# Altium integrated library Diodes - TVS.IntLib: 5379 symbols (part 119 of 122)
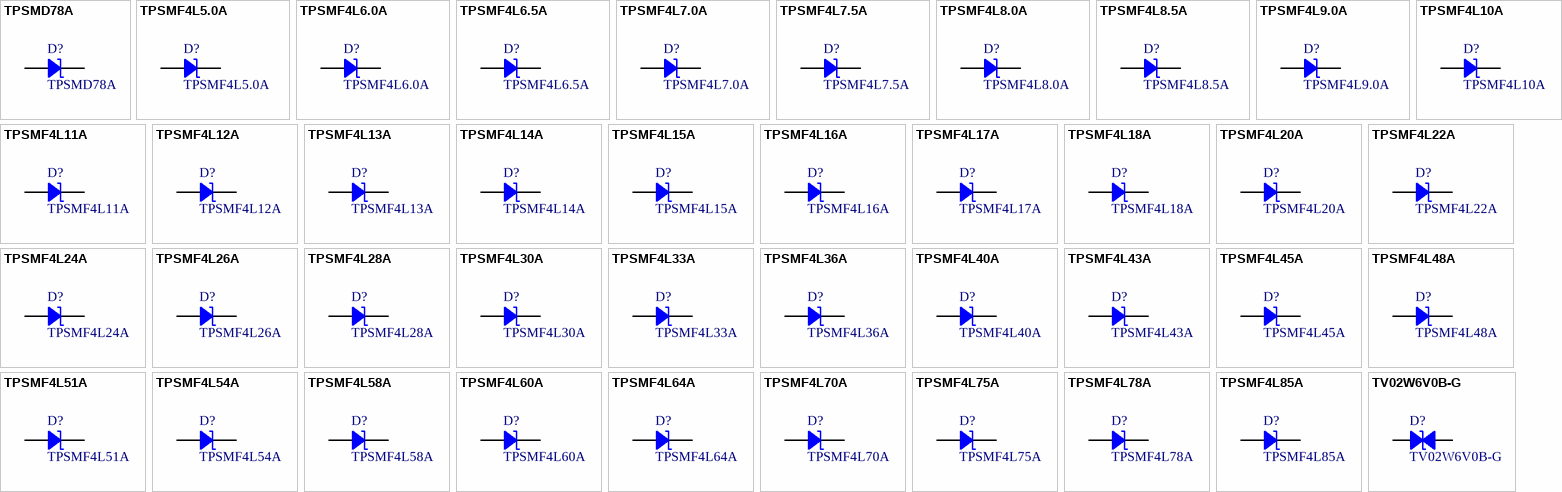
[diagram p252: symbols TPSMD78A to TV02W6V0B-G]

## TPSMF4L5.0A
designator D?
TVS DIODE 5V 9.2V SOD123FL; Manufacturer: Littelfuse Inc.; Current - Peak Pulse (10/1000µs): 40.1A; Power Line Protection: No; Power - Peak Pulse: 400W (Typ); Type: Zener; Unidirectional Channels: 1; Voltage - Breakdown (Min): 6.4V; Part Number: TPSMF4L5.0A; Applications: Automotive; ComponentLink1Description: Datasheet; ComponentLink1URL: https://www.littelfuse.com/~/media/electronics/datasheets/tvs_diodes/littelfuse_tvs_diode_tpsmf4l_datasheet.pdf.pdf; ComponentLink2Description: DigiKey Link; ComponentLink2URL: http://digikey.com/product-detail/en/littelfuse-inc/TPSMF4L5.0A/F7522CT-ND/6131274; LastUpdated: 9/2/2020 1:28:37 AM; Lifecycle Status: Active; Minimum Order: 1; Mounting Type: Surface Mount; Operating Temperature: -55°C ~ 150°C (TJ); Package / Case: SOD-123F; Packaging: TapeAndReel; PartId: 10208; Part Status: Active; Price: 0.14; Series: Automotive, AEC-Q101, TPSMF4L; Supplier 1: DigiKey; Supplier Part Number 1: F7522CT-ND; Supplier Device Package: SOD-123FL; Voltage - Clamping (Max) @ Ipp: 9.2V; Voltage - Reverse Standoff (Typ): 5V
footprint SOD123F
pins: 1, 2

## TPSMF4L6.0A
designator D?
TVS DIODE 6V 10.3V SOD123FL; Manufacturer: Littelfuse Inc.; Current - Peak Pulse (10/1000µs): 35.9A; Power Line Protection: No; Power - Peak Pulse: 400W (Typ); Type: Zener; Unidirectional Channels: 1; Voltage - Breakdown (Min): 6.67V; Part Number: TPSMF4L6.0A; Applications: Automotive; ComponentLink1Description: Datasheet; ComponentLink1URL: https://www.littelfuse.com/~/media/electronics/datasheets/tvs_diodes/littelfuse_tvs_diode_tpsmf4l_datasheet.pdf.pdf; ComponentLink2Description: DigiKey Link; ComponentLink2URL: http://digikey.com/product-detail/en/littelfuse-inc/TPSMF4L6.0A/F7527CT-ND/6131279; LastUpdated: 9/2/2020 1:28:36 AM; Lifecycle Status: Active; Minimum Order: 1; Mounting Type: Surface Mount; Operating Temperature: -55°C ~ 150°C (TJ); Package / Case: SOD-123F; Packaging: TapeAndReel; PartId: 10076; Part Status: Active; Price: 0.14; Series: Automotive, AEC-Q101, TPSMF4L; Supplier 1: DigiKey; Supplier Part Number 1: F7527CT-ND; Supplier Device Package: SOD-123FL; Voltage - Clamping (Max) @ Ipp: 10.3V; Voltage - Reverse Standoff (Typ): 6V
footprint SOD123F
pins: 1, 2

## TPSMF4L6.5A
designator D?
TVS DIODE 6.5V 11.2V SOD123FL; Manufacturer: Littelfuse Inc.; Current - Peak Pulse (10/1000µs): 33.1A; Power Line Protection: No; Power - Peak Pulse: 400W (Typ); Type: Zener; Unidirectional Channels: 1; Voltage - Breakdown (Min): 7.22V; Part Number: TPSMF4L6.5A; Applications: Automotive; ComponentLink1Description: Datasheet; ComponentLink1URL: https://www.littelfuse.com/~/media/electronics/datasheets/tvs_diodes/littelfuse_tvs_diode_tpsmf4l_datasheet.pdf.pdf; ComponentLink2Description: DigiKey Link; ComponentLink2URL: http://digikey.com/product-detail/en/littelfuse-inc/TPSMF4L6.5A/F7528CT-ND/6131280; LastUpdated: 9/2/2020 1:28:36 AM; Lifecycle Status: Active; Minimum Order: 1; Mounting Type: Surface Mount; Operating Temperature: -55°C ~ 150°C (TJ); Package / Case: SOD-123F; Packaging: TapeAndReel; PartId: 10131; Part Status: Active; Price: 0.14; Series: Automotive, AEC-Q101, TPSMF4L; Supplier 1: DigiKey; Supplier Part Number 1: F7528CT-ND; Supplier Device Package: SOD-123FL; Voltage - Clamping (Max) @ Ipp: 11.2V; Voltage - Reverse Standoff (Typ): 6.5V
footprint SOD123F
pins: 1, 2

## TPSMF4L7.0A
designator D?
TVS DIODE 7V 12V SOD123FL; Manufacturer: Littelfuse Inc.; Current - Peak Pulse (10/1000µs): 30.9A; Power Line Protection: No; Power - Peak Pulse: 400W (Typ); Type: Zener; Unidirectional Channels: 1; Voltage - Breakdown (Min): 7.78V; Part Number: TPSMF4L7.0A; Applications: Automotive; ComponentLink1Description: Datasheet; ComponentLink1URL: https://www.littelfuse.com/~/media/electronics/datasheets/tvs_diodes/littelfuse_tvs_diode_tpsmf4l_datasheet.pdf.pdf; ComponentLink2Description: DigiKey Link; ComponentLink2URL: http://digikey.com/product-detail/en/littelfuse-inc/TPSMF4L7.0A/F7529CT-ND/6131281; LastUpdated: 9/2/2020 1:28:37 AM; Lifecycle Status: Active; Minimum Order: 1; Mounting Type: Surface Mount; Operating Temperature: -55°C ~ 150°C (TJ); Package / Case: SOD-123F; Packaging: TapeAndReel; PartId: 10198; Part Status: Active; Price: 0.14; Series: Automotive, AEC-Q101, TPSMF4L; Supplier 1: DigiKey; Supplier Part Number 1: F7529CT-ND; Supplier Device Package: SOD-123FL; Voltage - Clamping (Max) @ Ipp: 12V; Voltage - Reverse Standoff (Typ): 7V
footprint SOD123F
pins: 1, 2

## TPSMF4L7.5A
designator D?
TVS DIODE 7.5V 12.9V SOD123FL; Manufacturer: Littelfuse Inc.; Current - Peak Pulse (10/1000µs): 28.7A; Power Line Protection: No; Power - Peak Pulse: 400W (Typ); Type: Zener; Unidirectional Channels: 1; Voltage - Breakdown (Min): 8.33V; Part Number: TPSMF4L7.5A; Applications: Automotive; ComponentLink1Description: Datasheet; ComponentLink1URL: https://www.littelfuse.com/~/media/electronics/datasheets/tvs_diodes/littelfuse_tvs_diode_tpsmf4l_datasheet.pdf.pdf; ComponentLink2Description: DigiKey Link; ComponentLink2URL: http://digikey.com/product-detail/en/littelfuse-inc/TPSMF4L7.5A/F7530CT-ND/6131282; LastUpdated: 9/2/2020 1:28:37 AM; Lifecycle Status: Active; Minimum Order: 1; Mounting Type: Surface Mount; Operating Temperature: -55°C ~ 150°C (TJ); Package / Case: SOD-123F; Packaging: TapeAndReel; PartId: 10196; Part Status: Active; Price: 0.14; Series: Automotive, AEC-Q101, TPSMF4L; Supplier 1: DigiKey; Supplier Part Number 1: F7530CT-ND; Supplier Device Package: SOD-123FL; Voltage - Clamping (Max) @ Ipp: 12.9V; Voltage - Reverse Standoff (Typ): 7.5V
footprint SOD123F
pins: 1, 2

## TPSMF4L8.0A
designator D?
TVS DIODE 8V 13.6V SOD123FL; Manufacturer: Littelfuse Inc.; Current - Peak Pulse (10/1000µs): 27.2A; Power Line Protection: No; Power - Peak Pulse: 400W (Typ); Type: Zener; Unidirectional Channels: 1; Voltage - Breakdown (Min): 8.89V; Part Number: TPSMF4L8.0A; Applications: Automotive; ComponentLink1Description: Datasheet; ComponentLink1URL: https://www.littelfuse.com/~/media/electronics/datasheets/tvs_diodes/littelfuse_tvs_diode_tpsmf4l_datasheet.pdf.pdf; ComponentLink2Description: DigiKey Link; ComponentLink2URL: http://digikey.com/product-detail/en/littelfuse-inc/TPSMF4L8.0A/F7531CT-ND/6131283; LastUpdated: 9/2/2020 1:28:37 AM; Lifecycle Status: Active; Minimum Order: 1; Mounting Type: Surface Mount; Operating Temperature: -55°C ~ 150°C (TJ); Package / Case: SOD-123F; Packaging: TapeAndReel; PartId: 10189; Part Status: Active; Price: 0.14; Series: Automotive, AEC-Q101, TPSMF4L; Supplier 1: DigiKey; Supplier Part Number 1: F7531CT-ND; Supplier Device Package: SOD-123FL; Voltage - Clamping (Max) @ Ipp: 13.6V; Voltage - Reverse Standoff (Typ): 8V
footprint SOD123F
pins: 1, 2

## TPSMF4L8.5A
designator D?
TVS DIODE 8.5V 14.4V SOD123FL; Manufacturer: Littelfuse Inc.; Current - Peak Pulse (10/1000µs): 25.7A; Power Line Protection: No; Power - Peak Pulse: 400W (Typ); Type: Zener; Unidirectional Channels: 1; Voltage - Breakdown (Min): 9.44V; Part Number: TPSMF4L8.5A; Applications: Automotive; ComponentLink1Description: Datasheet; ComponentLink1URL: https://www.littelfuse.com/~/media/electronics/datasheets/tvs_diodes/littelfuse_tvs_diode_tpsmf4l_datasheet.pdf.pdf; ComponentLink2Description: DigiKey Link; ComponentLink2URL: http://digikey.com/product-detail/en/littelfuse-inc/TPSMF4L8.5A/F7532CT-ND/6131284; LastUpdated: 9/2/2020 1:28:37 AM; Lifecycle Status: Active; Minimum Order: 1; Mounting Type: Surface Mount; Operating Temperature: -55°C ~ 150°C (TJ); Package / Case: SOD-123F; Packaging: TapeAndReel; PartId: 10193; Part Status: Active; Price: 0.14; Series: Automotive, AEC-Q101, TPSMF4L; Supplier 1: DigiKey; Supplier Part Number 1: F7532CT-ND; Supplier Device Package: SOD-123FL; Voltage - Clamping (Max) @ Ipp: 14.4V; Voltage - Reverse Standoff (Typ): 8.5V
footprint SOD123F
pins: 1, 2

## TPSMF4L9.0A
designator D?
TVS DIODE 9V 15.4V SOD123FL; Manufacturer: Littelfuse Inc.; Current - Peak Pulse (10/1000µs): 24.1A; Power Line Protection: No; Power - Peak Pulse: 400W (Typ); Type: Zener; Unidirectional Channels: 1; Voltage - Breakdown (Min): 10V; Part Number: TPSMF4L9.0A; Applications: Automotive; ComponentLink1Description: Datasheet; ComponentLink1URL: https://www.littelfuse.com/~/media/electronics/datasheets/tvs_diodes/littelfuse_tvs_diode_tpsmf4l_datasheet.pdf.pdf; ComponentLink2Description: DigiKey Link; ComponentLink2URL: http://digikey.com/product-detail/en/littelfuse-inc/TPSMF4L9.0A/F7533CT-ND/6131285; LastUpdated: 9/2/2020 1:28:37 AM; Lifecycle Status: Active; Minimum Order: 1; Mounting Type: Surface Mount; Operating Temperature: -55°C ~ 150°C (TJ); Package / Case: SOD-123F; Packaging: TapeAndReel; PartId: 10194; Part Status: Active; Price: 0.14; Series: Automotive, AEC-Q101, TPSMF4L; Supplier 1: DigiKey; Supplier Part Number 1: F7533CT-ND; Supplier Device Package: SOD-123FL; Voltage - Clamping (Max) @ Ipp: 15.4V; Voltage - Reverse Standoff (Typ): 9V
footprint SOD123F
pins: 1, 2

## TPSMF4L10A
designator D?
TVS DIODE 10V 17V SOD123FL; Manufacturer: Littelfuse Inc.; Current - Peak Pulse (10/1000µs): 23.5A; Power Line Protection: No; Power - Peak Pulse: 400W; Type: Zener; Unidirectional Channels: 1; Voltage - Breakdown (Min): 11.1V; Part Number: TPSMF4L10A; Applications: Automotive; ComponentLink1Description: Datasheet; ComponentLink1URL: https://www.littelfuse.com/~/media/electronics/datasheets/tvs_diodes/littelfuse_tvs_diode_tpsmf4l_datasheet.pdf.pdf; ComponentLink2Description: DigiKey Link; ComponentLink2URL: http://digikey.com/product-detail/en/littelfuse-inc/TPSMF4L10A/F7534CT-ND/6131286; LastUpdated: 9/2/2020 1:28:37 AM; Lifecycle Status: Active; Minimum Order: 1; Mounting Type: Surface Mount; Operating Temperature: -55°C ~ 150°C (TJ); Package / Case: SOD-123F; Packaging: CutTape; PartId: 10195; Part Status: Active; Price: 0.41; Series: Automotive, AEC-Q101, TPSMF4L; Supplier 1: DigiKey; Supplier Part Number 1: F7534CT-ND; Supplier Device Package: SOD-123FL; Voltage - Clamping (Max) @ Ipp: 17V; Voltage - Reverse Standoff (Typ): 10V
footprint SOD123F
pins: 1, 2

## TPSMF4L11A
designator D?
TVS DIODE 11V 18.2V SOD123FL; Manufacturer: Littelfuse Inc.; Current - Peak Pulse (10/1000µs): 22A; Power Line Protection: No; Power - Peak Pulse: 400W; Type: Zener; Unidirectional Channels: 1; Voltage - Breakdown (Min): 12.2V; Part Number: TPSMF4L11A; Applications: Automotive; ComponentLink1Description: Datasheet; ComponentLink1URL: https://www.littelfuse.com/~/media/electronics/datasheets/tvs_diodes/littelfuse_tvs_diode_tpsmf4l_datasheet.pdf.pdf; ComponentLink2Description: DigiKey Link; ComponentLink2URL: http://digikey.com/product-detail/en/littelfuse-inc/TPSMF4L11A/F7535CT-ND/6131287; LastUpdated: 9/2/2020 1:28:37 AM; Lifecycle Status: Active; Minimum Order: 1; Mounting Type: Surface Mount; Operating Temperature: -55°C ~ 150°C (TJ); Package / Case: SOD-123F; Packaging: TapeAndReel; PartId: 10187; Part Status: Active; Price: 0.14; Series: Automotive, AEC-Q101, TPSMF4L; Supplier 1: DigiKey; Supplier Part Number 1: F7535CT-ND; Supplier Device Package: SOD-123FL; Voltage - Clamping (Max) @ Ipp: 18.2V; Voltage - Reverse Standoff (Typ): 11V
footprint SOD123F
pins: 1, 2

## TPSMF4L12A
designator D?
TVS DIODE 12V 19.9V SOD123FL; Manufacturer: Littelfuse Inc.; Current - Peak Pulse (10/1000µs): 20.1A; Power Line Protection: No; Power - Peak Pulse: 400W; Type: Zener; Unidirectional Channels: 1; Voltage - Breakdown (Min): 13.3V; Part Number: TPSMF4L12A; Applications: Automotive; ComponentLink1Description: Datasheet; ComponentLink1URL: https://www.littelfuse.com/~/media/electronics/datasheets/tvs_diodes/littelfuse_tvs_diode_tpsmf4l_datasheet.pdf.pdf; ComponentLink2Description: DigiKey Link; ComponentLink2URL: http://digikey.com/product-detail/en/littelfuse-inc/TPSMF4L12A/F7523CT-ND/6131275; LastUpdated: 9/2/2020 1:28:37 AM; Lifecycle Status: Active; Minimum Order: 1; Mounting Type: Surface Mount; Operating Temperature: -55°C ~ 150°C (TJ); Package / Case: SOD-123F; Packaging: TapeAndReel; PartId: 10206; Part Status: Active; Price: 0.14; Series: Automotive, AEC-Q101, TPSMF4L; Supplier 1: DigiKey; Supplier Part Number 1: F7523CT-ND; Supplier Device Package: SOD-123FL; Voltage - Clamping (Max) @ Ipp: 19.9V; Voltage - Reverse Standoff (Typ): 12V
footprint SOD123F
pins: 1, 2

## TPSMF4L13A
designator D?
TVS DIODE 13V 21.5V SOD123FL; Manufacturer: Littelfuse Inc.; Current - Peak Pulse (10/1000µs): 18.6A; Power Line Protection: No; Power - Peak Pulse: 400W; Type: Zener; Unidirectional Channels: 1; Voltage - Breakdown (Min): 14.4V; Part Number: TPSMF4L13A; Applications: Automotive; ComponentLink1Description: Datasheet; ComponentLink1URL: https://www.littelfuse.com/~/media/electronics/datasheets/tvs_diodes/littelfuse_tvs_diode_tpsmf4l_datasheet.pdf.pdf; ComponentLink2Description: DigiKey Link; ComponentLink2URL: http://digikey.com/product-detail/en/littelfuse-inc/TPSMF4L13A/F7536CT-ND/6131288; LastUpdated: 9/2/2020 1:28:36 AM; Lifecycle Status: Active; Minimum Order: 1; Mounting Type: Surface Mount; Operating Temperature: -55°C ~ 150°C (TJ); Package / Case: SOD-123F; Packaging: TapeAndReel; PartId: 10078; Part Status: Active; Price: 0.14; Series: Automotive, AEC-Q101, TPSMF4L; Supplier 1: DigiKey; Supplier Part Number 1: F7536CT-ND; Supplier Device Package: SOD-123FL; Voltage - Clamping (Max) @ Ipp: 21.5V; Voltage - Reverse Standoff (Typ): 13V
footprint SOD123F
pins: 1, 2

## TPSMF4L14A
designator D?
TVS DIODE 14V 23.2V SOD123FL; Manufacturer: Littelfuse Inc.; Current - Peak Pulse (10/1000µs): 17.2A; Power Line Protection: No; Power - Peak Pulse: 400W; Type: Zener; Unidirectional Channels: 1; Voltage - Breakdown (Min): 15.6V; Part Number: TPSMF4L14A; Applications: Automotive; ComponentLink1Description: Datasheet; ComponentLink1URL: https://www.littelfuse.com/~/media/electronics/datasheets/tvs_diodes/littelfuse_tvs_diode_tpsmf4l_datasheet.pdf.pdf; ComponentLink2Description: DigiKey Link; ComponentLink2URL: http://digikey.com/product-detail/en/littelfuse-inc/TPSMF4L14A/F7537CT-ND/6131289; LastUpdated: 9/2/2020 1:28:37 AM; Lifecycle Status: Active; Minimum Order: 1; Mounting Type: Surface Mount; Operating Temperature: -55°C ~ 150°C (TJ); Package / Case: SOD-123F; Packaging: TapeAndReel; PartId: 10207; Part Status: Active; Price: 0.14; Series: Automotive, AEC-Q101, TPSMF4L; Supplier 1: DigiKey; Supplier Part Number 1: F7537CT-ND; Supplier Device Package: SOD-123FL; Voltage - Clamping (Max) @ Ipp: 23.2V; Voltage - Reverse Standoff (Typ): 14V
footprint SOD123F
pins: 1, 2

## TPSMF4L15A
designator D?
TVS DIODE 15V 24.4V SOD123FL; Manufacturer: Littelfuse Inc.; Current - Peak Pulse (10/1000µs): 16.4A; Power Line Protection: No; Power - Peak Pulse: 400W; Type: Zener; Unidirectional Channels: 1; Voltage - Breakdown (Min): 16.7V; Part Number: TPSMF4L15A; Applications: Automotive; ComponentLink1Description: Datasheet; ComponentLink1URL: https://www.littelfuse.com/~/media/electronics/datasheets/tvs_diodes/littelfuse_tvs_diode_tpsmf4l_datasheet.pdf.pdf; ComponentLink2Description: DigiKey Link; ComponentLink2URL: http://digikey.com/product-detail/en/littelfuse-inc/TPSMF4L15A/F7538CT-ND/6131290; LastUpdated: 9/2/2020 1:28:35 AM; Lifecycle Status: Active; Minimum Order: 1; Mounting Type: Surface Mount; Operating Temperature: -55°C ~ 150°C (TJ); Package / Case: SOD-123F; Packaging: TapeAndReel; PartId: 10037; Part Status: Active; Price: 0.14; Series: Automotive, AEC-Q101, TPSMF4L; Supplier 1: DigiKey; Supplier Part Number 1: F7538CT-ND; Supplier Device Package: SOD-123FL; Voltage - Clamping (Max) @ Ipp: 24.4V; Voltage - Reverse Standoff (Typ): 15V
footprint SOD123F
pins: 1, 2

## TPSMF4L16A
designator D?
TVS DIODE 16V 26V SOD123FL; Manufacturer: Littelfuse Inc.; Current - Peak Pulse (10/1000µs): 15.4A; Power Line Protection: No; Power - Peak Pulse: 400W; Type: Zener; Unidirectional Channels: 1; Voltage - Breakdown (Min): 17.8V; Part Number: TPSMF4L16A; Applications: Automotive; ComponentLink1Description: Datasheet; ComponentLink1URL: https://www.littelfuse.com/~/media/electronics/datasheets/tvs_diodes/littelfuse_tvs_diode_tpsmf4l_datasheet.pdf.pdf; ComponentLink2Description: DigiKey Link; ComponentLink2URL: http://digikey.com/product-detail/en/littelfuse-inc/TPSMF4L16A/F7539CT-ND/6131291; LastUpdated: 9/2/2020 1:28:37 AM; Lifecycle Status: Active; Minimum Order: 1; Mounting Type: Surface Mount; Operating Temperature: -55°C ~ 150°C (TJ); Package / Case: SOD-123F; Packaging: TapeAndReel; PartId: 10188; Part Status: Active; Price: 0.14; Series: Automotive, AEC-Q101, TPSMF4L; Supplier 1: DigiKey; Supplier Part Number 1: F7539CT-ND; Supplier Device Package: SOD-123FL; Voltage - Clamping (Max) @ Ipp: 26V; Voltage - Reverse Standoff (Typ): 16V
footprint SOD123F
pins: 1, 2

## TPSMF4L17A
designator D?
TVS DIODE 17V 27.6V SOD123FL; Manufacturer: Littelfuse Inc.; Current - Peak Pulse (10/1000µs): 14.5A; Power Line Protection: No; Power - Peak Pulse: 400W; Type: Zener; Unidirectional Channels: 1; Voltage - Breakdown (Min): 18.9V; Part Number: TPSMF4L17A; Applications: Automotive; ComponentLink1Description: Datasheet; ComponentLink1URL: https://www.littelfuse.com/~/media/electronics/datasheets/tvs_diodes/littelfuse_tvs_diode_tpsmf4l_datasheet.pdf.pdf; ComponentLink2Description: DigiKey Link; ComponentLink2URL: http://digikey.com/product-detail/en/littelfuse-inc/TPSMF4L17A/F7540CT-ND/6131292; LastUpdated: 9/2/2020 1:28:36 AM; Lifecycle Status: Active; Minimum Order: 1; Mounting Type: Surface Mount; Operating Temperature: -55°C ~ 150°C (TJ); Package / Case: SOD-123F; Packaging: TapeAndReel; PartId: 10086; Part Status: Active; Price: 0.14; Series: Automotive, AEC-Q101, TPSMF4L; Supplier 1: DigiKey; Supplier Part Number 1: F7540CT-ND; Supplier Device Package: SOD-123FL; Voltage - Clamping (Max) @ Ipp: 27.6V; Voltage - Reverse Standoff (Typ): 17V
footprint SOD123F
pins: 1, 2

## TPSMF4L18A
designator D?
TVS DIODE 18V 29.2V SOD123FL; Manufacturer: Littelfuse Inc.; Current - Peak Pulse (10/1000µs): 13.7A; Power Line Protection: No; Power - Peak Pulse: 400W; Type: Zener; Unidirectional Channels: 1; Voltage - Breakdown (Min): 20V; Part Number: TPSMF4L18A; Applications: Automotive; ComponentLink1Description: Datasheet; ComponentLink1URL: https://www.littelfuse.com/~/media/electronics/datasheets/tvs_diodes/littelfuse_tvs_diode_tpsmf4l_datasheet.pdf.pdf; ComponentLink2Description: DigiKey Link; ComponentLink2URL: http://digikey.com/product-detail/en/littelfuse-inc/TPSMF4L18A/F7524CT-ND/6131276; LastUpdated: 9/2/2020 1:28:37 AM; Lifecycle Status: Active; Minimum Order: 1; Mounting Type: Surface Mount; Operating Temperature: -55°C ~ 150°C (TJ); Package / Case: SOD-123F; Packaging: TapeAndReel; PartId: 10205; Part Status: Active; Price: 0.14; Series: Automotive, AEC-Q101, TPSMF4L; Supplier 1: DigiKey; Supplier Part Number 1: F7524CT-ND; Supplier Device Package: SOD-123FL; Voltage - Clamping (Max) @ Ipp: 29.2V; Voltage - Reverse Standoff (Typ): 18V
footprint SOD123F
pins: 1, 2

## TPSMF4L20A
designator D?
TVS DIODE 20V 32.4V SOD123FL; Manufacturer: Littelfuse Inc.; Current - Peak Pulse (10/1000µs): 12.3A; Power Line Protection: No; Power - Peak Pulse: 400W; Type: Zener; Unidirectional Channels: 1; Voltage - Breakdown (Min): 22.2V; Part Number: TPSMF4L20A; Applications: Automotive; ComponentLink1Description: Datasheet; ComponentLink1URL: https://www.littelfuse.com/~/media/electronics/datasheets/tvs_diodes/littelfuse_tvs_diode_tpsmf4l_datasheet.pdf.pdf; ComponentLink2Description: DigiKey Link; ComponentLink2URL: http://digikey.com/product-detail/en/littelfuse-inc/TPSMF4L20A/F7541CT-ND/6131293; LastUpdated: 9/2/2020 1:28:37 AM; Lifecycle Status: Active; Minimum Order: 1; Mounting Type: Surface Mount; Operating Temperature: -55°C ~ 150°C (TJ); Package / Case: SOD-123F; Packaging: TapeAndReel; PartId: 10147; Part Status: Active; Price: 0.14; Series: Automotive, AEC-Q101, TPSMF4L; Supplier 1: DigiKey; Supplier Part Number 1: F7541CT-ND; Supplier Device Package: SOD-123FL; Voltage - Clamping (Max) @ Ipp: 32.4V; Voltage - Reverse Standoff (Typ): 20V
footprint SOD123F
pins: 1, 2

## TPSMF4L22A
designator D?
TVS DIODE 22V 35.5V SOD123FL; Manufacturer: Littelfuse Inc.; Current - Peak Pulse (10/1000µs): 11.3A; Power Line Protection: No; Power - Peak Pulse: 400W; Type: Zener; Unidirectional Channels: 1; Voltage - Breakdown (Min): 24.4V; Part Number: TPSMF4L22A; Applications: Automotive; ComponentLink1Description: Datasheet; ComponentLink1URL: https://www.littelfuse.com/~/media/electronics/datasheets/tvs_diodes/littelfuse_tvs_diode_tpsmf4l_datasheet.pdf.pdf; ComponentLink2Description: DigiKey Link; ComponentLink2URL: http://digikey.com/product-detail/en/littelfuse-inc/TPSMF4L22A/F7542CT-ND/6131294; LastUpdated: 9/2/2020 1:28:37 AM; Lifecycle Status: Active; Minimum Order: 1; Mounting Type: Surface Mount; Operating Temperature: -55°C ~ 150°C (TJ); Package / Case: SOD-123F; Packaging: TapeAndReel; PartId: 10210; Part Status: Active; Price: 0.14; Series: Automotive, AEC-Q101, TPSMF4L; Supplier 1: DigiKey; Supplier Part Number 1: F7542CT-ND; Supplier Device Package: SOD-123FL; Voltage - Clamping (Max) @ Ipp: 35.5V; Voltage - Reverse Standoff (Typ): 22V
footprint SOD123F
pins: 1, 2

## TPSMF4L24A
designator D?
TVS DIODE 24V 38.9V SOD123FL; Manufacturer: Littelfuse Inc.; Current - Peak Pulse (10/1000µs): 10.3A; Power Line Protection: No; Power - Peak Pulse: 400W; Type: Zener; Unidirectional Channels: 1; Voltage - Breakdown (Min): 26.7V; Part Number: TPSMF4L24A; Applications: Automotive; ComponentLink1Description: Datasheet; ComponentLink1URL: https://www.littelfuse.com/~/media/electronics/datasheets/tvs_diodes/littelfuse_tvs_diode_tpsmf4l_datasheet.pdf.pdf; ComponentLink2Description: DigiKey Link; ComponentLink2URL: http://digikey.com/product-detail/en/littelfuse-inc/TPSMF4L24A/F7525CT-ND/6131277; LastUpdated: 9/2/2020 1:28:36 AM; Lifecycle Status: Active; Minimum Order: 1; Mounting Type: Surface Mount; Operating Temperature: -55°C ~ 150°C (TJ); Package / Case: SOD-123F; Packaging: TapeAndReel; PartId: 10127; Part Status: Active; Price: 0.14; Series: Automotive, AEC-Q101, TPSMF4L; Supplier 1: DigiKey; Supplier Part Number 1: F7525CT-ND; Supplier Device Package: SOD-123FL; Voltage - Clamping (Max) @ Ipp: 38.9V; Voltage - Reverse Standoff (Typ): 24V
footprint SOD123F
pins: 1, 2

## TPSMF4L26A
designator D?
TVS DIODE 26V 42.1V SOD123FL; Manufacturer: Littelfuse Inc.; Current - Peak Pulse (10/1000µs): 9.5A; Power Line Protection: No; Power - Peak Pulse: 400W; Type: Zener; Unidirectional Channels: 1; Voltage - Breakdown (Min): 28.9V; Part Number: TPSMF4L26A; Applications: Automotive; ComponentLink1Description: Datasheet; ComponentLink1URL: https://www.littelfuse.com/~/media/electronics/datasheets/tvs_diodes/littelfuse_tvs_diode_tpsmf4l_datasheet.pdf.pdf; ComponentLink2Description: DigiKey Link; ComponentLink2URL: http://digikey.com/product-detail/en/littelfuse-inc/TPSMF4L26A/F7543CT-ND/6131295; LastUpdated: 9/2/2020 1:28:37 AM; Lifecycle Status: Active; Minimum Order: 1; Mounting Type: Surface Mount; Operating Temperature: -55°C ~ 150°C (TJ); Package / Case: SOD-123F; Packaging: TapeAndReel; PartId: 10209; Part Status: Active; Price: 0.14; Series: Automotive, AEC-Q101, TPSMF4L; Supplier 1: DigiKey; Supplier Part Number 1: F7543CT-ND; Supplier Device Package: SOD-123FL; Voltage - Clamping (Max) @ Ipp: 42.1V; Voltage - Reverse Standoff (Typ): 26V
footprint SOD123F
pins: 1, 2

## TPSMF4L28A
designator D?
TVS DIODE 28V 45.4V SOD123FL; Manufacturer: Littelfuse Inc.; Current - Peak Pulse (10/1000µs): 8.8A; Power Line Protection: No; Power - Peak Pulse: 400W; Type: Zener; Unidirectional Channels: 1; Voltage - Breakdown (Min): 31.1V; Part Number: TPSMF4L28A; Applications: Automotive; ComponentLink1Description: Datasheet; ComponentLink1URL: https://www.littelfuse.com/~/media/electronics/datasheets/tvs_diodes/littelfuse_tvs_diode_tpsmf4l_datasheet.pdf.pdf; ComponentLink2Description: DigiKey Link; ComponentLink2URL: http://digikey.com/product-detail/en/littelfuse-inc/TPSMF4L28A/F7544CT-ND/6131296; LastUpdated: 9/2/2020 1:28:36 AM; Lifecycle Status: Active; Minimum Order: 1; Mounting Type: Surface Mount; Operating Temperature: -55°C ~ 150°C (TJ); Package / Case: SOD-123F; Packaging: TapeAndReel; PartId: 10085; Part Status: Active; Price: 0.14; Series: Automotive, AEC-Q101, TPSMF4L; Supplier 1: DigiKey; Supplier Part Number 1: F7544CT-ND; Supplier Device Package: SOD-123FL; Voltage - Clamping (Max) @ Ipp: 45.4V; Voltage - Reverse Standoff (Typ): 28V
footprint SOD123F
pins: 1, 2

## TPSMF4L30A
designator D?
TVS DIODE 30V 48.4V SOD123FL; Manufacturer: Littelfuse Inc.; Current - Peak Pulse (10/1000µs): 8.3A; Power Line Protection: No; Power - Peak Pulse: 400W; Type: Zener; Unidirectional Channels: 1; Voltage - Breakdown (Min): 33.3V; Part Number: TPSMF4L30A; Applications: Automotive; ComponentLink1Description: Datasheet; ComponentLink1URL: https://www.littelfuse.com/~/media/electronics/datasheets/tvs_diodes/littelfuse_tvs_diode_tpsmf4l_datasheet.pdf.pdf; ComponentLink2Description: DigiKey Link; ComponentLink2URL: http://digikey.com/product-detail/en/littelfuse-inc/TPSMF4L30A/F7545CT-ND/6131297; LastUpdated: 9/2/2020 1:28:37 AM; Lifecycle Status: Active; Minimum Order: 1; Mounting Type: Surface Mount; Operating Temperature: -55°C ~ 150°C (TJ); Package / Case: SOD-123F; Packaging: TapeAndReel; PartId: 10211; Part Status: Active; Price: 0.14; Series: Automotive, AEC-Q101, TPSMF4L; Supplier 1: DigiKey; Supplier Part Number 1: F7545CT-ND; Supplier Device Package: SOD-123FL; Voltage - Clamping (Max) @ Ipp: 48.4V; Voltage - Reverse Standoff (Typ): 30V
footprint SOD123F
pins: 1, 2

## TPSMF4L33A
designator D?
TVS DIODE 33V 53.3V SOD123FL; Manufacturer: Littelfuse Inc.; Current - Peak Pulse (10/1000µs): 7.5A; Power Line Protection: No; Power - Peak Pulse: 400W; Type: Zener; Unidirectional Channels: 1; Voltage - Breakdown (Min): 36.7V; Part Number: TPSMF4L33A; Applications: Automotive; ComponentLink1Description: Datasheet; ComponentLink1URL: https://www.littelfuse.com/~/media/electronics/datasheets/tvs_diodes/littelfuse_tvs_diode_tpsmf4l_datasheet.pdf.pdf; ComponentLink2Description: DigiKey Link; ComponentLink2URL: http://digikey.com/product-detail/en/littelfuse-inc/TPSMF4L33A/F7546CT-ND/6131298; LastUpdated: 9/2/2020 1:28:37 AM; Lifecycle Status: Active; Minimum Order: 1; Mounting Type: Surface Mount; Operating Temperature: -55°C ~ 150°C (TJ); Package / Case: SOD-123F; Packaging: TapeAndReel; PartId: 10204; Part Status: Active; Price: 0.14; Series: Automotive, AEC-Q101, TPSMF4L; Supplier 1: DigiKey; Supplier Part Number 1: F7546CT-ND; Supplier Device Package: SOD-123FL; Voltage - Clamping (Max) @ Ipp: 53.3V; Voltage - Reverse Standoff (Typ): 33V
footprint SOD123F
pins: 1, 2

## TPSMF4L36A
designator D?
TVS DIODE 36V 58.1V SOD123FL; Manufacturer: Littelfuse Inc.; Current - Peak Pulse (10/1000µs): 6.9A; Power Line Protection: No; Power - Peak Pulse: 400W; Type: Zener; Unidirectional Channels: 1; Voltage - Breakdown (Min): 40V; Part Number: TPSMF4L36A; Applications: Automotive; ComponentLink1Description: Datasheet; ComponentLink1URL: https://www.littelfuse.com/~/media/electronics/datasheets/tvs_diodes/littelfuse_tvs_diode_tpsmf4l_datasheet.pdf.pdf; ComponentLink2Description: DigiKey Link; ComponentLink2URL: http://digikey.com/product-detail/en/littelfuse-inc/TPSMF4L36A/F7526CT-ND/6131278; LastUpdated: 9/2/2020 1:28:37 AM; Lifecycle Status: Active; Minimum Order: 1; Mounting Type: Surface Mount; Operating Temperature: -55°C ~ 150°C (TJ); Package / Case: SOD-123F; Packaging: TapeAndReel; PartId: 10149; Part Status: Active; Price: 0.14; Series: Automotive, AEC-Q101, TPSMF4L; Supplier 1: DigiKey; Supplier Part Number 1: F7526CT-ND; Supplier Device Package: SOD-123FL; Voltage - Clamping (Max) @ Ipp: 58.1V; Voltage - Reverse Standoff (Typ): 36V
footprint SOD123F
pins: 1, 2

## TPSMF4L40A
designator D?
TVS DIODE 40V 64.5V SOD123FL; Manufacturer: Littelfuse Inc.; Current - Peak Pulse (10/1000µs): 6.2A; Power Line Protection: No; Power - Peak Pulse: 400W; Type: Zener; Unidirectional Channels: 1; Voltage - Breakdown (Min): 44.4V; Part Number: TPSMF4L40A; Applications: Automotive; ComponentLink1Description: Datasheet; ComponentLink1URL: https://www.littelfuse.com/~/media/electronics/datasheets/tvs_diodes/littelfuse_tvs_diode_tpsmf4l_datasheet.pdf.pdf; ComponentLink2Description: DigiKey Link; ComponentLink2URL: http://digikey.com/product-detail/en/littelfuse-inc/TPSMF4L40A/F7547CT-ND/6131299; LastUpdated: 9/2/2020 1:28:36 AM; Lifecycle Status: Active; Minimum Order: 1; Mounting Type: Surface Mount; Operating Temperature: -55°C ~ 150°C (TJ); Package / Case: SOD-123F; Packaging: TapeAndReel; PartId: 10146; Part Status: Active; Price: 0.14; Series: Automotive, AEC-Q101, TPSMF4L; Supplier 1: DigiKey; Supplier Part Number 1: F7547CT-ND; Supplier Device Package: SOD-123FL; Voltage - Clamping (Max) @ Ipp: 64.5V; Voltage - Reverse Standoff (Typ): 40V
footprint SOD123F
pins: 1, 2

## TPSMF4L43A
designator D?
TVS DIODE 43V 69.4V SOD123FL; Manufacturer: Littelfuse Inc.; Current - Peak Pulse (10/1000µs): 5.8A; Power Line Protection: No; Power - Peak Pulse: 400W; Type: Zener; Unidirectional Channels: 1; Voltage - Breakdown (Min): 47.8V; Part Number: TPSMF4L43A; Applications: Automotive; ComponentLink1Description: Datasheet; ComponentLink1URL: https://www.littelfuse.com/~/media/electronics/datasheets/tvs_diodes/littelfuse_tvs_diode_tpsmf4l_datasheet.pdf.pdf; ComponentLink2Description: DigiKey Link; ComponentLink2URL: http://digikey.com/product-detail/en/littelfuse-inc/TPSMF4L43A/F7548CT-ND/6131300; LastUpdated: 9/2/2020 1:28:36 AM; Lifecycle Status: Active; Minimum Order: 1; Mounting Type: Surface Mount; Operating Temperature: -55°C ~ 150°C (TJ); Package / Case: SOD-123F; Packaging: TapeAndReel; PartId: 10121; Part Status: Active; Price: 0.14; Series: Automotive, AEC-Q101, TPSMF4L; Supplier 1: DigiKey; Supplier Part Number 1: F7548CT-ND; Supplier Device Package: SOD-123FL; Voltage - Clamping (Max) @ Ipp: 69.4V; Voltage - Reverse Standoff (Typ): 43V
footprint SOD123F
pins: 1, 2

## TPSMF4L45A
designator D?
TVS DIODE 45V 72.7V SOD123FL; Manufacturer: Littelfuse Inc.; Current - Peak Pulse (10/1000µs): 5.5A; Power Line Protection: No; Power - Peak Pulse: 400W; Type: Zener; Unidirectional Channels: 1; Voltage - Breakdown (Min): 50V; Part Number: TPSMF4L45A; Applications: Automotive; ComponentLink1Description: Datasheet; ComponentLink1URL: https://www.littelfuse.com/~/media/electronics/datasheets/tvs_diodes/littelfuse_tvs_diode_tpsmf4l_datasheet.pdf.pdf; ComponentLink2Description: DigiKey Link; ComponentLink2URL: http://digikey.com/product-detail/en/littelfuse-inc/TPSMF4L45A/F7549CT-ND/6131301; LastUpdated: 9/2/2020 1:28:37 AM; Lifecycle Status: Active; Minimum Order: 1; Mounting Type: Surface Mount; Operating Temperature: -55°C ~ 150°C (TJ); Package / Case: SOD-123F; Packaging: TapeAndReel; PartId: 10199; Part Status: Active; Price: 0.14; Series: Automotive, AEC-Q101, TPSMF4L; Supplier 1: DigiKey; Supplier Part Number 1: F7549CT-ND; Supplier Device Package: SOD-123FL; Voltage - Clamping (Max) @ Ipp: 72.7V; Voltage - Reverse Standoff (Typ): 45V
footprint SOD123F
pins: 1, 2

## TPSMF4L48A
designator D?
TVS DIODE 48V 77.4V SOD123FL; Manufacturer: Littelfuse Inc.; Current - Peak Pulse (10/1000µs): 5.2A; Power Line Protection: No; Power - Peak Pulse: 400W; Type: Zener; Unidirectional Channels: 1; Voltage - Breakdown (Min): 53.3V; Part Number: TPSMF4L48A; Applications: Automotive; ComponentLink1Description: Datasheet; ComponentLink1URL: https://www.littelfuse.com/~/media/electronics/datasheets/tvs_diodes/littelfuse_tvs_diode_tpsmf4l_datasheet.pdf.pdf; ComponentLink2Description: DigiKey Link; ComponentLink2URL: http://digikey.com/product-detail/en/littelfuse-inc/TPSMF4L48A/F7550CT-ND/6131302; LastUpdated: 9/2/2020 1:28:36 AM; Lifecycle Status: Active; Minimum Order: 1; Mounting Type: Surface Mount; Operating Temperature: -55°C ~ 150°C (TJ); Package / Case: SOD-123F; Packaging: TapeAndReel; PartId: 10145; Part Status: Active; Price: 0.14; Series: Automotive, AEC-Q101, TPSMF4L; Supplier 1: DigiKey; Supplier Part Number 1: F7550CT-ND; Supplier Device Package: SOD-123FL; Voltage - Clamping (Max) @ Ipp: 77.4V; Voltage - Reverse Standoff (Typ): 48V
footprint SOD123F
pins: 1, 2

## TPSMF4L51A
designator D?
TVS DIODE 51V 82.4V SOD123FL; Manufacturer: Littelfuse Inc.; Current - Peak Pulse (10/1000µs): 4.9A; Power Line Protection: No; Power - Peak Pulse: 400W; Type: Zener; Unidirectional Channels: 1; Voltage - Breakdown (Min): 56.7V; Part Number: TPSMF4L51A; Applications: Automotive; ComponentLink1Description: Datasheet; ComponentLink1URL: https://www.littelfuse.com/~/media/electronics/datasheets/tvs_diodes/littelfuse_tvs_diode_tpsmf4l_datasheet.pdf.pdf; ComponentLink2Description: DigiKey Link; ComponentLink2URL: http://digikey.com/product-detail/en/littelfuse-inc/TPSMF4L51A/F7551CT-ND/6131303; LastUpdated: 9/2/2020 1:28:36 AM; Lifecycle Status: Active; Minimum Order: 1; Mounting Type: Surface Mount; Operating Temperature: -55°C ~ 150°C (TJ); Package / Case: SOD-123F; Packaging: TapeAndReel; PartId: 10133; Part Status: Active; Price: 0.14; Series: Automotive, AEC-Q101, TPSMF4L; Supplier 1: DigiKey; Supplier Part Number 1: F7551CT-ND; Supplier Device Package: SOD-123FL; Voltage - Clamping (Max) @ Ipp: 82.4V; Voltage - Reverse Standoff (Typ): 51V
footprint SOD123F
pins: 1, 2

## TPSMF4L54A
designator D?
TVS DIODE 54V 87.1V SOD123FL; Manufacturer: Littelfuse Inc.; Current - Peak Pulse (10/1000µs): 4.6A; Power Line Protection: No; Power - Peak Pulse: 400W; Type: Zener; Unidirectional Channels: 1; Voltage - Breakdown (Min): 60V; Part Number: TPSMF4L54A; Applications: Automotive; ComponentLink1Description: Datasheet; ComponentLink1URL: https://www.littelfuse.com/~/media/electronics/datasheets/tvs_diodes/littelfuse_tvs_diode_tpsmf4l_datasheet.pdf.pdf; ComponentLink2Description: DigiKey Link; ComponentLink2URL: http://digikey.com/product-detail/en/littelfuse-inc/TPSMF4L54A/F7552CT-ND/6131304; LastUpdated: 9/2/2020 1:28:37 AM; Lifecycle Status: Active; Minimum Order: 1; Mounting Type: Surface Mount; Operating Temperature: -55°C ~ 150°C (TJ); Package / Case: SOD-123F; Packaging: TapeAndReel; PartId: 10150; Part Status: Active; Price: 0.14; Series: Automotive, AEC-Q101, TPSMF4L; Supplier 1: DigiKey; Supplier Part Number 1: F7552CT-ND; Supplier Device Package: SOD-123FL; Voltage - Clamping (Max) @ Ipp: 87.1V; Voltage - Reverse Standoff (Typ): 54V
footprint SOD123F
pins: 1, 2

## TPSMF4L58A
designator D?
TVS DIODE 58V 93.6V SOD123FL; Manufacturer: Littelfuse Inc.; Current - Peak Pulse (10/1000µs): 4.3A; Power Line Protection: No; Power - Peak Pulse: 400W; Type: Zener; Unidirectional Channels: 1; Voltage - Breakdown (Min): 64.4V; Part Number: TPSMF4L58A; Applications: Automotive; ComponentLink1Description: Datasheet; ComponentLink1URL: https://www.littelfuse.com/~/media/electronics/datasheets/tvs_diodes/littelfuse_tvs_diode_tpsmf4l_datasheet.pdf.pdf; ComponentLink2Description: DigiKey Link; ComponentLink2URL: http://digikey.com/product-detail/en/littelfuse-inc/TPSMF4L58A/F7553CT-ND/6131305; LastUpdated: 9/2/2020 1:28:37 AM; Lifecycle Status: Active; Minimum Order: 1; Mounting Type: Surface Mount; Operating Temperature: -55°C ~ 150°C (TJ); Package / Case: SOD-123F; Packaging: TapeAndReel; PartId: 10148; Part Status: Active; Price: 0.14; Series: Automotive, AEC-Q101, TPSMF4L; Supplier 1: DigiKey; Supplier Part Number 1: F7553CT-ND; Supplier Device Package: SOD-123FL; Voltage - Clamping (Max) @ Ipp: 93.6V; Voltage - Reverse Standoff (Typ): 58V
footprint SOD123F
pins: 1, 2

## TPSMF4L60A
designator D?
TVS DIODE 60V 96.8V SOD123FL; Manufacturer: Littelfuse Inc.; Current - Peak Pulse (10/1000µs): 4.1A; Power Line Protection: No; Power - Peak Pulse: 400W; Type: Zener; Unidirectional Channels: 1; Voltage - Breakdown (Min): 66.7V; Part Number: TPSMF4L60A; Applications: Automotive; ComponentLink1Description: Datasheet; ComponentLink1URL: https://www.littelfuse.com/~/media/electronics/datasheets/tvs_diodes/littelfuse_tvs_diode_tpsmf4l_datasheet.pdf.pdf; ComponentLink2Description: DigiKey Link; ComponentLink2URL: http://digikey.com/product-detail/en/littelfuse-inc/TPSMF4L60A/F7554CT-ND/6131306; LastUpdated: 9/2/2020 1:28:36 AM; Lifecycle Status: Active; Minimum Order: 1; Mounting Type: Surface Mount; Operating Temperature: -55°C ~ 150°C (TJ); Package / Case: SOD-123F; Packaging: TapeAndReel; PartId: 10144; Part Status: Active; Price: 0.14; Series: Automotive, AEC-Q101, TPSMF4L; Supplier 1: DigiKey; Supplier Part Number 1: F7554CT-ND; Supplier Device Package: SOD-123FL; Voltage - Clamping (Max) @ Ipp: 96.8V; Voltage - Reverse Standoff (Typ): 60V
footprint SOD123F
pins: 1, 2

## TPSMF4L64A
designator D?
TVS DIODE 64V 103V SOD123FL; Manufacturer: Littelfuse Inc.; Current - Peak Pulse (10/1000µs): 3.9A; Power Line Protection: No; Power - Peak Pulse: 400W; Type: Zener; Unidirectional Channels: 1; Voltage - Breakdown (Min): 71.1V; Part Number: TPSMF4L64A; Applications: Automotive; ComponentLink1Description: Datasheet; ComponentLink1URL: https://www.littelfuse.com/~/media/electronics/datasheets/tvs_diodes/littelfuse_tvs_diode_tpsmf4l_datasheet.pdf.pdf; ComponentLink2Description: DigiKey Link; ComponentLink2URL: http://digikey.com/product-detail/en/littelfuse-inc/TPSMF4L64A/F7555CT-ND/6131307; LastUpdated: 9/2/2020 1:28:36 AM; Lifecycle Status: Active; Minimum Order: 1; Mounting Type: Surface Mount; Operating Temperature: -55°C ~ 150°C (TJ); Package / Case: SOD-123F; Packaging: CutTape; PartId: 10079; Part Status: Active; Price: 0.41; Series: Automotive, AEC-Q101, TPSMF4L; Supplier 1: DigiKey; Supplier Part Number 1: F7555CT-ND; Supplier Device Package: SOD-123FL; Voltage - Clamping (Max) @ Ipp: 103V; Voltage - Reverse Standoff (Typ): 64V
footprint SOD123F
pins: 1, 2

## TPSMF4L70A
designator D?
TVS DIODE 70V 113V SOD123FL; Manufacturer: Littelfuse Inc.; Current - Peak Pulse (10/1000µs): 3.5A; Power Line Protection: No; Power - Peak Pulse: 400W; Type: Zener; Unidirectional Channels: 1; Voltage - Breakdown (Min): 77.8V; Part Number: TPSMF4L70A; Applications: Automotive; ComponentLink1Description: Datasheet; ComponentLink1URL: https://www.littelfuse.com/~/media/electronics/datasheets/tvs_diodes/littelfuse_tvs_diode_tpsmf4l_datasheet.pdf.pdf; ComponentLink2Description: DigiKey Link; ComponentLink2URL: http://digikey.com/product-detail/en/littelfuse-inc/TPSMF4L70A/F7556CT-ND/6131308; LastUpdated: 9/2/2020 1:28:37 AM; Lifecycle Status: Active; Minimum Order: 1; Mounting Type: Surface Mount; Operating Temperature: -55°C ~ 150°C (TJ); Package / Case: SOD-123F; Packaging: TapeAndReel; PartId: 10192; Part Status: Active; Price: 0.14; Series: Automotive, AEC-Q101, TPSMF4L; Supplier 1: DigiKey; Supplier Part Number 1: F7556CT-ND; Supplier Device Package: SOD-123FL; Voltage - Clamping (Max) @ Ipp: 113V; Voltage - Reverse Standoff (Typ): 70V
footprint SOD123F
pins: 1, 2

## TPSMF4L75A
designator D?
TVS DIODE 75V 121V SOD123FL; Manufacturer: Littelfuse Inc.; Current - Peak Pulse (10/1000µs): 3.3A; Power Line Protection: No; Power - Peak Pulse: 400W; Type: Zener; Unidirectional Channels: 1; Voltage - Breakdown (Min): 83.3V; Part Number: TPSMF4L75A; Applications: Automotive; ComponentLink1Description: Datasheet; ComponentLink1URL: https://www.littelfuse.com/~/media/electronics/datasheets/tvs_diodes/littelfuse_tvs_diode_tpsmf4l_datasheet.pdf.pdf; ComponentLink2Description: DigiKey Link; ComponentLink2URL: http://digikey.com/product-detail/en/littelfuse-inc/TPSMF4L75A/F7557CT-ND/6131309; LastUpdated: 9/2/2020 1:28:36 AM; Lifecycle Status: Active; Minimum Order: 1; Mounting Type: Surface Mount; Operating Temperature: -55°C ~ 150°C (TJ); Package / Case: SOD-123F; Packaging: TapeAndReel; PartId: 10132; Part Status: Active; Price: 0.14; Series: Automotive, AEC-Q101, TPSMF4L; Supplier 1: DigiKey; Supplier Part Number 1: F7557CT-ND; Supplier Device Package: SOD-123FL; Voltage - Clamping (Max) @ Ipp: 121V; Voltage - Reverse Standoff (Typ): 75V
footprint SOD123F
pins: 1, 2

## TPSMF4L78A
designator D?
TVS DIODE 78V 126V SOD123FL; Manufacturer: Littelfuse Inc.; Current - Peak Pulse (10/1000µs): 3.2A; Power Line Protection: No; Power - Peak Pulse: 400W; Type: Zener; Unidirectional Channels: 1; Voltage - Breakdown (Min): 86.7V; Part Number: TPSMF4L78A; Applications: Automotive; ComponentLink1Description: Datasheet; ComponentLink1URL: https://www.littelfuse.com/~/media/electronics/datasheets/tvs_diodes/littelfuse_tvs_diode_tpsmf4l_datasheet.pdf.pdf; ComponentLink2Description: DigiKey Link; ComponentLink2URL: http://digikey.com/product-detail/en/littelfuse-inc/TPSMF4L78A/F7558CT-ND/6131310; LastUpdated: 9/2/2020 1:28:35 AM; Lifecycle Status: Active; Minimum Order: 1; Mounting Type: Surface Mount; Operating Temperature: -55°C ~ 150°C (TJ); Package / Case: SOD-123F; Packaging: TapeAndReel; PartId: 10040; Part Status: Active; Price: 0.14; Series: Automotive, AEC-Q101, TPSMF4L; Supplier 1: DigiKey; Supplier Part Number 1: F7558CT-ND; Supplier Device Package: SOD-123FL; Voltage - Clamping (Max) @ Ipp: 126V; Voltage - Reverse Standoff (Typ): 78V
footprint SOD123F
pins: 1, 2

## TPSMF4L85A
designator D?
TVS DIODE 85V 137V SOD123FL; Manufacturer: Littelfuse Inc.; Current - Peak Pulse (10/1000µs): 2.9A; Power Line Protection: No; Power - Peak Pulse: 400W; Type: Zener; Unidirectional Channels: 1; Voltage - Breakdown (Min): 94.4V; Part Number: TPSMF4L85A; Applications: Automotive; ComponentLink1Description: Datasheet; ComponentLink1URL: https://www.littelfuse.com/~/media/electronics/datasheets/tvs_diodes/littelfuse_tvs_diode_tpsmf4l_datasheet.pdf.pdf; ComponentLink2Description: DigiKey Link; ComponentLink2URL: http://digikey.com/product-detail/en/littelfuse-inc/TPSMF4L85A/F7559CT-ND/6131311; LastUpdated: 9/2/2020 1:28:36 AM; Lifecycle Status: Active; Minimum Order: 1; Mounting Type: Surface Mount; Operating Temperature: -55°C ~ 150°C (TJ); Package / Case: SOD-123F; Packaging: TapeAndReel; PartId: 10143; Part Status: Active; Price: 0.14; Series: Automotive, AEC-Q101, TPSMF4L; Supplier 1: DigiKey; Supplier Part Number 1: F7559CT-ND; Supplier Device Package: SOD-123FL; Voltage - Clamping (Max) @ Ipp: 137V; Voltage - Reverse Standoff (Typ): 85V
footprint SOD123F
pins: 1, 2

## TV02W6V0B-G
designator D?
TVS DIODE 6V 10.3V SOD123; Manufacturer: Comchip Technology; Bidirectional Channels: 1; Current - Peak Pulse (10/1000µs): 19.42A; Power Line Protection: No; Power - Peak Pulse: 200W; Type: Zener; Voltage - Breakdown (Min): 6.67V; Part Number: TV02W6V0B-G; Applications: General Purpose; ComponentLink1Description: Datasheet; ComponentLink1URL: http://www.comchiptech.com/admin/files/product/TV02W-G series RevE.pdf; ComponentLink2Description: DigiKey Link; ComponentLink2URL: http://digikey.com/product-detail/en/comchip-technology/TV02W6V0B-G/641-2008-1-ND/9598496; LastUpdated: 9/2/2020 1:28:33 AM; Lifecycle Status: Active; Minimum Order: 1; Mounting Type: Surface Mount; Operating Temperature: -55°C ~ 150°C (TJ); Package / Case: SOD-123; Packaging: TapeAndReel; PartId: 10026; Part Status: Active; Price: 0.11; Series: -; Supplier 1: DigiKey; Supplier Part Number 1: 641-2008-1-ND; Supplier Device Package: SOD-123; Voltage - Clamping (Max) @ Ipp: 10.3V; Voltage - Reverse Standoff (Typ): 6V
footprint SOD-123
pins: 1, 2

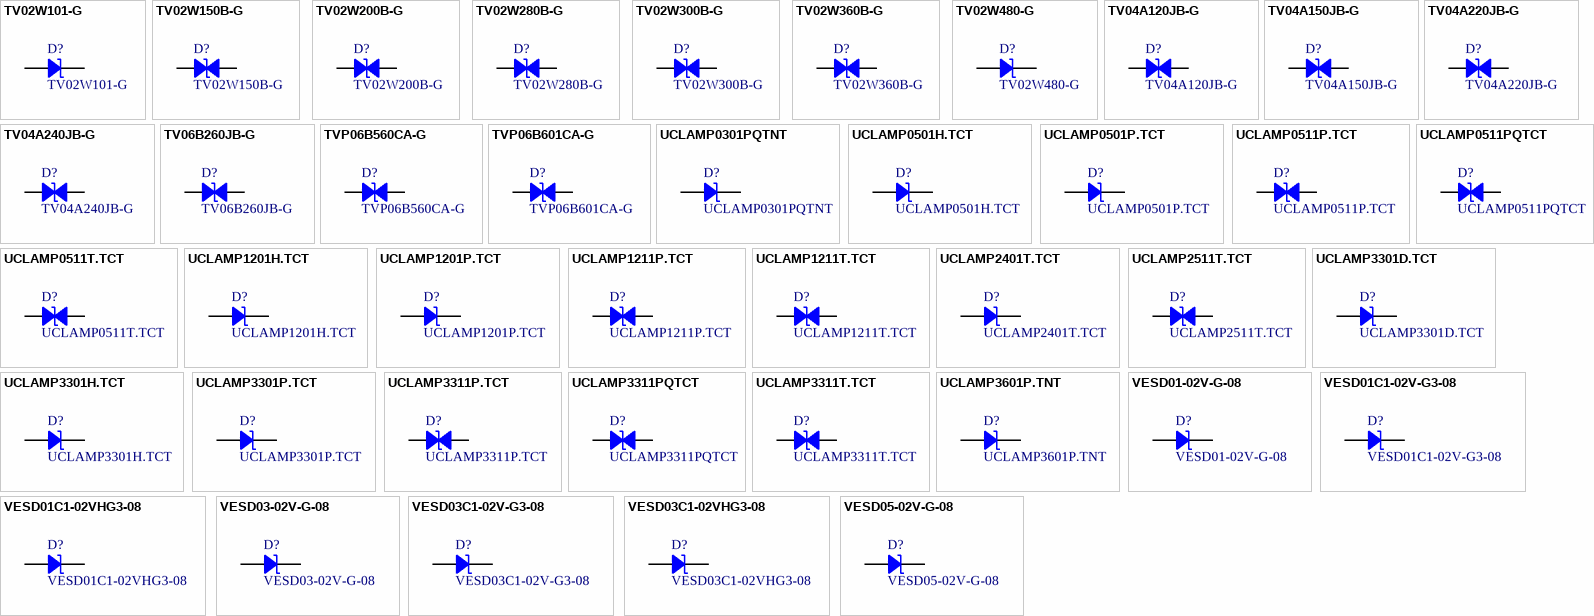
[diagram p132: symbols TV02W101-G to VESD05-02V-G-08]

## TV02W101-G
designator D?
TVS DIODE 100V 162V SOD123; Manufacturer: Comchip Technology; Current - Peak Pulse (10/1000µs): 1.23A; Power Line Protection: No; Power - Peak Pulse: 200W; Type: Zener; Unidirectional Channels: 1; Voltage - Breakdown (Min): 111V; Part Number: TV02W101-G; Applications: General Purpose; ComponentLink1Description: Datasheet; ComponentLink1URL: http://www.comchiptech.com/admin/files/product/TV02W-G series RevE.pdf; ComponentLink2Description: DigiKey Link; ComponentLink2URL: http://digikey.com/product-detail/en/comchip-technology/TV02W101-G/641-1536-1-ND/5013302; LastUpdated: 9/2/2020 1:28:36 AM; Lifecycle Status: Active; Minimum Order: 1; Mounting Type: Surface Mount; Operating Temperature: -55°C ~ 150°C (TJ); Package / Case: SOD-123F; Packaging: TapeAndReel; PartId: 10137; Part Status: Active; Price: 0.10; Series: -; Supplier 1: DigiKey; Supplier Part Number 1: 641-1536-1-ND; Supplier Device Package: SOD-123; Voltage - Clamping (Max) @ Ipp: 162V; Voltage - Reverse Standoff (Typ): 100V
footprint SOD123F
pins: 1, 2

## TV02W150B-G
designator D?
TVS DIODE 15V 24.4V SOD123; Manufacturer: Comchip Technology; Bidirectional Channels: 1; Current - Peak Pulse (10/1000µs): 8.2A; Power Line Protection: No; Power - Peak Pulse: 200W; Type: Zener; Voltage - Breakdown (Min): 16.7V; Part Number: TV02W150B-G; Applications: General Purpose; ComponentLink1Description: Datasheet; ComponentLink1URL: http://www.comchiptech.com/admin/files/product/TV02W-G series RevE.pdf; ComponentLink2Description: DigiKey Link; ComponentLink2URL: http://digikey.com/product-detail/en/comchip-technology/TV02W150B-G/641-2066-1-ND/10131652; LastUpdated: 9/2/2020 1:28:33 AM; Lifecycle Status: Active; Minimum Order: 1; Mounting Type: Surface Mount; Operating Temperature: -55°C ~ 150°C (TJ); Package / Case: SOD-123; Packaging: TapeAndReel; PartId: 10024; Part Status: Active; Price: 0.11; Series: -; Supplier 1: DigiKey; Supplier Part Number 1: 641-2066-1-ND; Supplier Device Package: SOD-123; Voltage - Clamping (Max) @ Ipp: 24.4V; Voltage - Reverse Standoff (Typ): 15V
footprint SOD-123
pins: 1, 2

## TV02W200B-G
designator D?
TVS DIODE 20V 32.4V SOD123; Manufacturer: Comchip Technology; Bidirectional Channels: 1; Current - Peak Pulse (10/1000µs): 6.17A; Power Line Protection: No; Power - Peak Pulse: 200W; Type: Zener; Voltage - Breakdown (Min): 22.2V; Part Number: TV02W200B-G; Applications: General Purpose; ComponentLink1Description: Datasheet; ComponentLink1URL: http://www.comchiptech.com/admin/files/product/TV02W-G series RevE.pdf; ComponentLink2Description: DigiKey Link; ComponentLink2URL: http://digikey.com/product-detail/en/comchip-technology/TV02W200B-G/641-1669-1-ND/5023772; LastUpdated: 9/2/2020 1:28:33 AM; Lifecycle Status: Active; Minimum Order: 1; Mounting Type: Surface Mount; Operating Temperature: -55°C ~ 150°C (TJ); Package / Case: SOD-123; Packaging: TapeAndReel; PartId: 10025; Part Status: Active; Price: 0.11; Series: -; Supplier 1: DigiKey; Supplier Part Number 1: 641-1669-1-ND; Supplier Device Package: SOD-123; Voltage - Clamping (Max) @ Ipp: 32.4V; Voltage - Reverse Standoff (Typ): 20V
footprint SOD-123
pins: 1, 2

## TV02W280B-G
designator D?
TVS DIODE 28V 45.4V SOD123; Manufacturer: Comchip Technology; Bidirectional Channels: 1; Current - Peak Pulse (10/1000µs): 4.41A; Power Line Protection: No; Power - Peak Pulse: 200W; Type: Zener; Voltage - Breakdown (Min): 31.1V; Part Number: TV02W280B-G; Applications: General Purpose; ComponentLink1Description: Datasheet; ComponentLink1URL: http://www.comchiptech.com/admin/files/product/TV02W-G series RevE.pdf; ComponentLink2Description: DigiKey Link; ComponentLink2URL: http://digikey.com/product-detail/en/comchip-technology/TV02W280B-G/641-1957-1-ND/9477887; LastUpdated: 9/2/2020 1:28:33 AM; Lifecycle Status: Active; Minimum Order: 1; Mounting Type: Surface Mount; Operating Temperature: -55°C ~ 150°C (TJ); Package / Case: SOD-123; Packaging: TapeAndReel; PartId: 10027; Part Status: Active; Price: 0.11; Series: -; Supplier 1: DigiKey; Supplier Part Number 1: 641-1957-1-ND; Supplier Device Package: SOD-123; Voltage - Clamping (Max) @ Ipp: 45.4V; Voltage - Reverse Standoff (Typ): 28V
footprint SOD-123
pins: 1, 2

## TV02W300B-G
designator D?
TVS DIODE 30V 48.4V SOD123; Manufacturer: Comchip Technology; Bidirectional Channels: 1; Current - Peak Pulse (10/1000µs): 4.13A; Power Line Protection: No; Power - Peak Pulse: 200W; Type: Zener; Voltage - Breakdown (Min): 33.3V; Part Number: TV02W300B-G; Applications: General Purpose; ComponentLink1Description: Datasheet; ComponentLink1URL: http://www.comchiptech.com/admin/files/product/TV02W-G series RevE.pdf; ComponentLink2Description: DigiKey Link; ComponentLink2URL: http://digikey.com/product-detail/en/comchip-technology/TV02W300B-G/641-1958-1-ND/9477888; LastUpdated: 9/2/2020 1:28:33 AM; Lifecycle Status: Active; Minimum Order: 1; Mounting Type: Surface Mount; Operating Temperature: -55°C ~ 150°C (TJ); Package / Case: SOD-123; Packaging: TapeAndReel; PartId: 10029; Part Status: Active; Price: 0.11; Series: -; Supplier 1: DigiKey; Supplier Part Number 1: 641-1958-1-ND; Supplier Device Package: SOD-123; Voltage - Clamping (Max) @ Ipp: 48.4V; Voltage - Reverse Standoff (Typ): 30V
footprint SOD-123
pins: 1, 2

## TV02W360B-G
designator D?
TVS DIODE 36V 58.1V SOD123; Manufacturer: Comchip Technology; Bidirectional Channels: 1; Current - Peak Pulse (10/1000µs): 3.44A; Power Line Protection: No; Power - Peak Pulse: 200W; Type: Zener; Voltage - Breakdown (Min): 40V; Part Number: TV02W360B-G; Applications: General Purpose; ComponentLink1Description: Datasheet; ComponentLink1URL: http://www.comchiptech.com/admin/files/product/TV02W-G series RevE.pdf; ComponentLink2Description: DigiKey Link; ComponentLink2URL: http://digikey.com/product-detail/en/comchip-technology/TV02W360B-G/641-2091-1-ND/10131677; LastUpdated: 9/2/2020 1:28:33 AM; Lifecycle Status: Active; Minimum Order: 1; Mounting Type: Surface Mount; Operating Temperature: -55°C ~ 150°C (TJ); Package / Case: SOD-123; Packaging: TapeAndReel; PartId: 10023; Part Status: Active; Price: 0.11; Series: -; Supplier 1: DigiKey; Supplier Part Number 1: 641-2091-1-ND; Supplier Device Package: SOD-123; Voltage - Clamping (Max) @ Ipp: 58.1V; Voltage - Reverse Standoff (Typ): 36V
footprint SOD-123
pins: 1, 2